# EAGLE library part TLV61225DCKR (library CalvEngIO-Power)
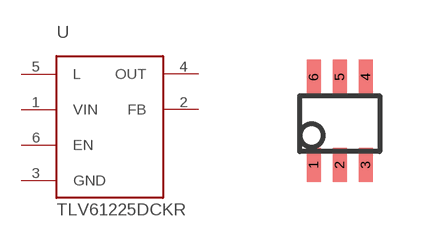
[diagram p0: symbol with the pads of SC-70-6; footprint SC-70-6]

Designator prefix -

## TLV61225DCKR  [SC-70-6]
1  VIN
2  FB
3  GND
4  OUT
5  L
6  EN

## Footprint SC-70-6 (pad centres in mm)
smd 0.35 x 0.85: 1 -0.65,-1.03; 2 0,-1.03; 3 0.65,-1.03; 4 0.65,1.17; 5 0,1.17; 6 -0.65,1.17